# Altium schematic symbol library Phoenix.SchLib: 39 symbols
Pins are listed as number, name and electrical type; pins without a type are passive.

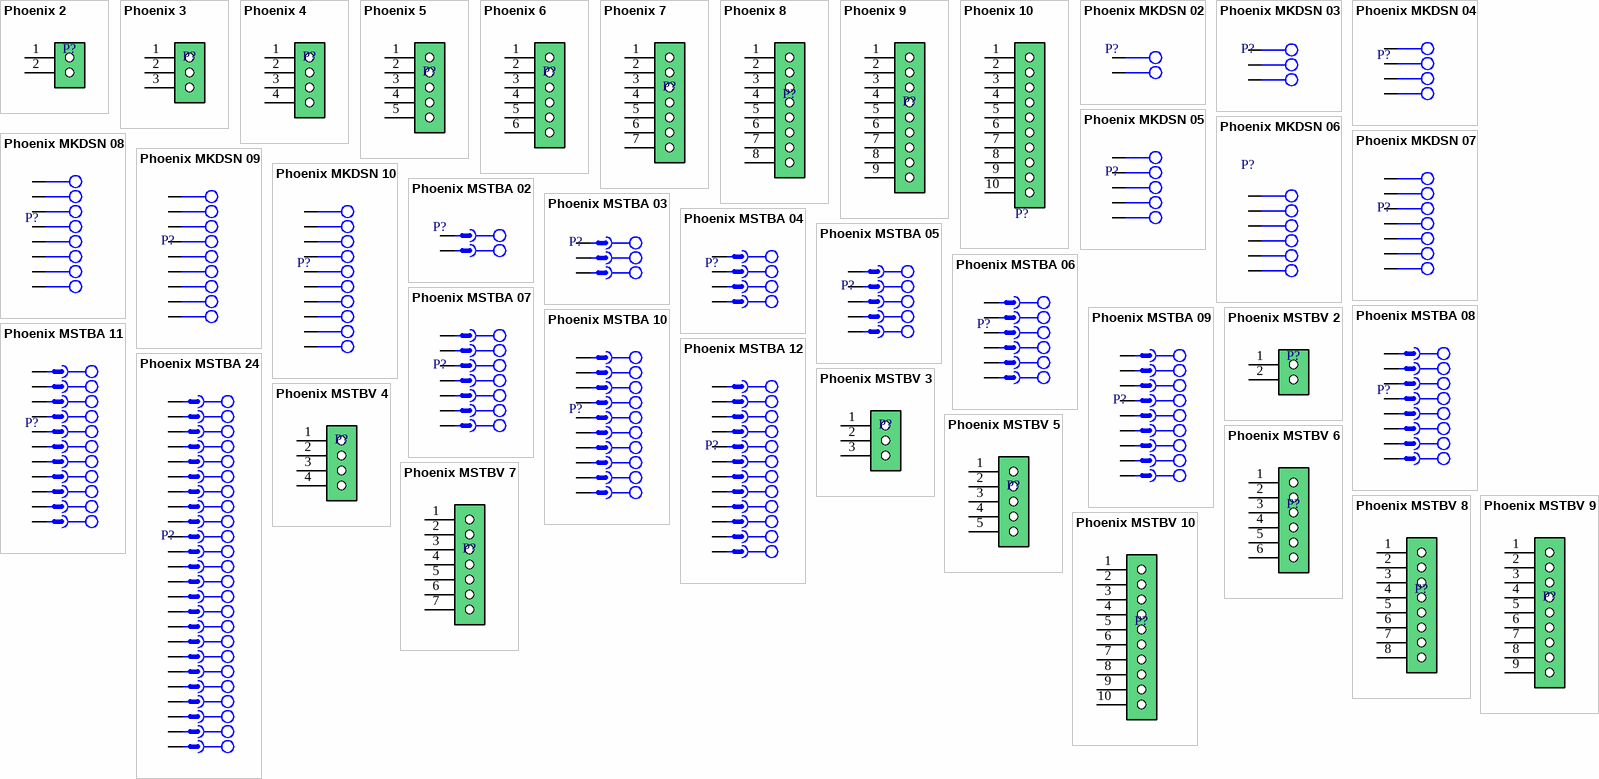
[diagram p0: symbols Phoenix 2 to Phoenix MSTBV 10]

## Phoenix 2
designator P?
ComponentLinkp-URL: https://www.smartw.ir/; DatasheetVersion: 2022
footprint PRKR2A
pins: 1, 2

## Phoenix 3
designator P?
ComponentLinkp-URL: https://www.smartw.ir/; DatasheetVersion: 2022
footprint PRKR3A
pins: 1, 2, 3

## Phoenix 4
designator P?
ComponentLinkp-URL: https://www.smartw.ir/; DatasheetVersion: 2022
footprint PRKR4A
pins: 1, 2, 3, 4

## Phoenix 5
designator P?
ComponentLinkp-URL: https://www.smartw.ir/; DatasheetVersion: 2022
footprint PRKR5A
pins: 1, 2, 3, 4, 5

## Phoenix 6
designator P?
ComponentLinkp-URL: ComponentLinkp-URL https://www.smartw.ir/; DatasheetVersion: 2022
footprint PRKR6A
pins: 1, 2, 3, 4, 5, 6

## Phoenix 7
designator P?
ComponentLinkp-URL: https://www.smartw.ir/; DatasheetVersion: 2022
footprint PRKR7A
pins: 1, 2, 3, 4, 5, 6, 7

## Phoenix 8
designator P?
ComponentLinkp-URL: https://www.smartw.ir/; DatasheetVersion: 2022
footprint PRKR8A
pins: 1, 2, 3, 4, 5, 6, 7, 8

## Phoenix 9
designator P?
ComponentLinkp-URL: https://www.smartw.ir/; DatasheetVersion: 2022
footprint PRKR9A
pins: 1, 2, 3, 4, 5, 6, 7, 8, 9

## Phoenix 10
designator P?
ComponentLinkp-URL: https://www.smartw.ir/; DatasheetVersion: 2022
footprint PRKR10A
pins: 1, 2, 3, 4, 5, 6, 7, 8, 9, 10

## Phoenix MKDSN 02
designator P?
DatasheetVersion: 2022
footprint CON_MKDSN1,5/2-5,08
pins: 1, 2

## Phoenix MKDSN 03
designator P?
DatasheetVersion: 2022
footprint CON_MKDSN1,5/3-5,08
pins: 1, 2, 3

## Phoenix MKDSN 04
designator P?
DatasheetVersion: 2022
footprint CON_MKDSN1,5/4-5,08
pins: 1, 2, 3, 4

## Phoenix MKDSN 05
designator P?
DatasheetVersion: 2022
footprint CON_MKDSN1,5/5-5,08
pins: 1, 2, 3, 4, 5

## Phoenix MKDSN 06
designator P?
DatasheetVersion: 2022
footprint CON_MKDSN1,5/6-5,08
pins: 1, 2, 3, 4, 5, 6

## Phoenix MKDSN 07
designator P?
DatasheetVersion: 2022
footprint CON_MKDSN1,5/7-5,08
pins: 1, 2, 3, 4, 5, 6, 7

## Phoenix MKDSN 08
designator P?
DatasheetVersion: 2022
footprint CON_MKDSN1,5/8-5,08
pins: 1, 2, 3, 4, 5, 6, 7, 8

## Phoenix MKDSN 09
designator P?
DatasheetVersion: 2022
footprint CON_MKDSN1,5/9-5,08
pins: 1, 2, 3, 4, 5, 6, 7, 8, 9

## Phoenix MKDSN 10
designator P?
DatasheetVersion: 2022
footprint CON_MKDSN1,5/10-5,08
pins: 1, 2, 3, 4, 5, 6, 7, 8, 9, 10

## Phoenix MSTBA 02
designator P?
DatasheetVersion: 2022
footprint CON_MSTBA02
pins: 1, 2

## Phoenix MSTBA 03
designator P?
DatasheetVersion: 2022
footprint CON_MSTBA03
pins: 1, 2, 3

## Phoenix MSTBA 04
designator P?
DatasheetVersion: 2022
footprint CON_MSTBA04
pins: 1, 2, 3, 4

## Phoenix MSTBA 05
designator P?
DatasheetVersion: 2022
footprint CON_MSTBA05
pins: 1, 2, 3, 4, 5

## Phoenix MSTBA 06
designator P?
DatasheetVersion: 2022
footprint CON_MSTBA06
pins: 1, 2, 3, 4, 5, 6

## Phoenix MSTBA 07
designator P?
DatasheetVersion: 2022
footprint CON_MSTBA07
pins: 1, 2, 3, 4, 5, 6, 7

## Phoenix MSTBA 08
designator P?
DatasheetVersion: 2022
footprint CON_MSTBA08
pins: 1, 2, 3, 4, 5, 6, 7, 8

## Phoenix MSTBA 09
designator P?
DatasheetVersion: 2022
footprint CON_MSTBA09
pins: 1, 2, 3, 4, 5, 6, 7, 8, 9

## Phoenix MSTBA 10
designator P?
DatasheetVersion: 2022
footprint CON_MSTBA10
pins: 1, 2, 3, 4, 5, 6, 7, 8, 9, 10

## Phoenix MSTBA 11
designator P?
DatasheetVersion: 2022
footprint CON_MSTBA11
pins: 1, 2, 3, 4, 5, 6, 7, 8, 9, 10, 11

## Phoenix MSTBA 12
designator P?
DatasheetVersion: 2022
footprint CON_MSTBA12
pins: 1, 2, 3, 4, 5, 6, 7, 8, 9, 10, 11, 12

## Phoenix MSTBA 24
designator P?
DatasheetVersion: 2022
footprint CON_MSTBA24
pins: 1, 2, 3, 4, 5, 6, 7, 8, 9, 10, 11, 12, 13, 14, 15, 16, 17, 18, 19, 20, 21, 22, 23, 24

## Phoenix MSTBV 2
designator P?
ComponentLinkp-URL: https://www.smartw.ir/; DatasheetVersion: 2022
footprint Phoenix MSTBV 2 (Header, Nominal current: 12 A Rated voltage (III/2): 320 V Number of positions: 2 Pitch: 5mm Color: green Contact surface: Tin Assembly: Soldering)
pins: 1, 2

## Phoenix MSTBV 3
designator P?
ComponentLinkp-URL: https://www.smartw.ir/; DatasheetVersion: 2022
footprint Phoenix MSTBV 3 (Header, Nominal current: 12 A Rated voltage (III/2): 320 V Number of positions: 3 Pitch: 5mm Color: green Contact surface: Tin Assembly: Soldering)
pins: 1, 2, 3

## Phoenix MSTBV 4
designator P?
ComponentLinkp-URL: https://www.smartw.ir/; DatasheetVersion: 2022
footprint Phoenix MSTBV 4 (Header, Nominal current: 12 A Rated voltage (III/2): 320 V Number of positions: 4 Pitch: 5mm Color: green Contact surface: Tin Assembly: Soldering)
pins: 1, 2, 3, 4

## Phoenix MSTBV 5
designator P?
ComponentLinkp-URL: https://www.smartw.ir/; DatasheetVersion: 2022
footprint Phoenix MSTBV 5 (Header, Nominal current: 12 A Rated voltage (III/2): 320 V Number of positions: 5 Pitch: 5mm Color: green Contact surface: Tin Assembly: Soldering)
pins: 1, 2, 3, 4, 5

## Phoenix MSTBV 6
designator P?
ComponentLinkp-URL: https://www.smartw.ir/; DatasheetVersion: 2022
footprint Phoenix MSTBV 6 (Header, Nominal current: 12 A Rated voltage (III/2): 320 V Number of positions: 6 Pitch: 5mm Color: green Contact surface: Tin Assembly: Soldering)
pins: 1, 2, 3, 4, 5, 6

## Phoenix MSTBV 7
designator P?
ComponentLinkp-URL: https://www.smartw.ir/; DatasheetVersion: 2022
footprint Phoenix MSTBV 7 (Header, Nominal current: 12 A Rated voltage (III/2): 320 V Number of positions: 6 Pitch: 5mm Color: green Contact surface: Tin Assembly: Soldering)
pins: 1, 2, 3, 4, 5, 6, 7

## Phoenix MSTBV 8
designator P?
ComponentLinkp-URL: https://www.smartw.ir/; DatasheetVersion: 2022
footprint Phoenix MSTBV 8 (Header, Nominal current: 12 A Rated voltage (III/2): 320 V Number of positions: 6 Pitch: 5mm Color: green Contact surface: Tin Assembly: Soldering)
pins: 1, 2, 3, 4, 5, 6, 7, 8

## Phoenix MSTBV 9
designator P?
ComponentLinkp-URL: https://www.smartw.ir/; DatasheetVersion: 2022
footprint Phoenix MSTBV 9 (Header, Nominal current: 12 A Rated voltage (III/2): 320 V Number of positions: 6 Pitch: 5mm Color: green Contact surface: Tin Assembly: Soldering)
pins: 1, 2, 3, 4, 5, 6, 7, 8, 9

## Phoenix MSTBV 10
designator P?
ComponentLinkp-URL: https://www.smartw.ir/; DatasheetVersion: 2022
footprint Phoenix MSTBV 10 (Header, Nominal current: 12 A Rated voltage (III/2): 320 V Number of positions: 6 Pitch: 5mm Color: green Contact surface: Tin Assembly: Soldering)
pins: 1, 2, 3, 4, 5, 6, 7, 8, 9, 10